# Altium footprint library SON40P200X200X80-11N.PcbLib: 1 footprints
Each footprint in its own frame and in the unit in brackets; x right, y up, seen from the top. Pads: shape width x height; smd on the part's side, far side on the other; paste and mask are expansions set on the pad; w line width, h text height; cw(c..) or ccw(c..) is an arc to the next point about the centre after c.
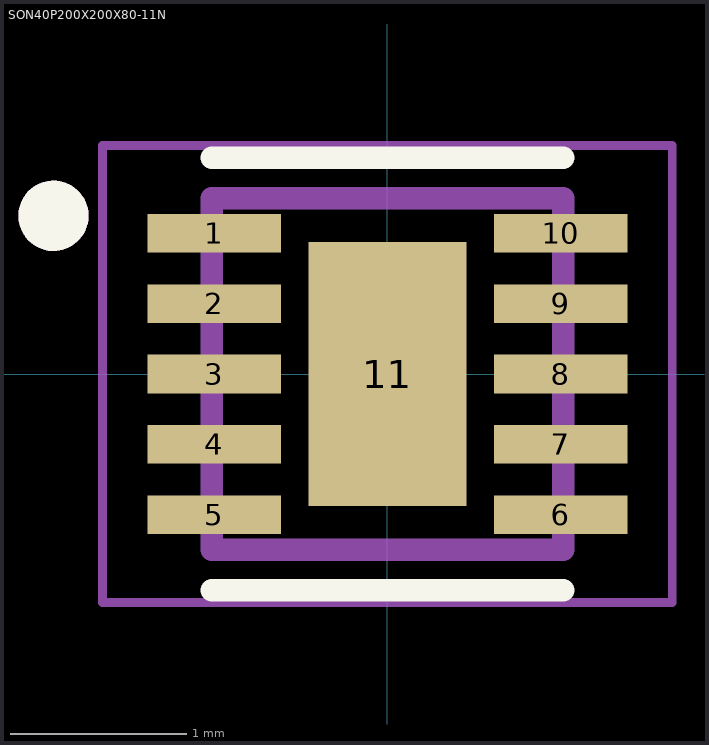
[diagram p0: the footprint, top view; thin cyan lines are the x and y axes]

## SON40P200X200X80-11N [mm]
pads (11):
  rect 0.76x0.22 smd: 1(-0.985,0.8) 2(-0.985,0.4) 3(-0.985,0) 4(-0.985,-0.4) 5(-0.985,-0.8) 6(0.985,-0.8) 7(0.985,-0.4) 8(0.985,0) 9(0.985,0.4) 10(0.985,0.8)
  rect 0.9x1.5 smd paste-2: 11(0,0)
Top Overlay:
  circle w0.2: c-1.9,0.9 r0.1
  lines w0.127: -1,-1.23 1,-1.23 ; -1,1.23 1,1.23
Top Paste:
  region: 0.285,-0.475 -0.285,-0.475 -0.285,0.475 0.285,0.475
Mechanical 13:
  circle w0.2: c-1.9,0.9 r0.1
  lines w0.127: -1,-1 -1,1 1,1 1,-1 -1,-1
Mechanical 15:
  lines w0.05: -1.62,-1.3 -1.62,1.3 1.62,1.3 1.62,-1.3 -1.62,-1.3
3D body "BQ24040DSQR--3DModel-STEP-56544.STEP": height 0.76, standoff -0.04, extent -1,-1 1,1